# EAGLE library part ATA6561-GAQW-N (library ruark2)
1/1 Transceiver CAN 8-SO
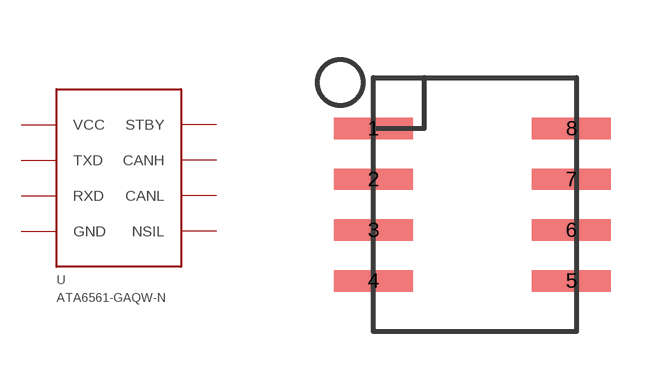
[diagram p109: symbol with the pads of SOIC8; footprint SOIC8]

Designator prefix U

## ATA6561-GAQW-N (PARTNO: ATA6561-GAQW-NCT-ND)  [SOIC8]
1  TXD
2  GND
3  VCC
4  RXD
5  NSIL
6  CANL
7  CANH
8  STBY

## Footprint SOIC8 (pad centres in mm)
smd 1.981 x 0.533: 1 -2.477,1.905; 2 -2.477,0.635; 3 -2.477,-0.635; 4 -2.477,-1.905; 5 2.477,-1.905; 6 2.477,-0.635; 7 2.477,0.635; 8 2.477,1.905